# Altium footprint library UVEEC LED Cube.PcbLib: 9 footprints
Each footprint in its own frame and in the unit in brackets; x right, y up, seen from the top. Pads: shape width x height; smd on the part's side, far side on the other; paste and mask are expansions set on the pad; w line width, h text height; cw(c..) or ccw(c..) is an arc to the next point about the centre after c.
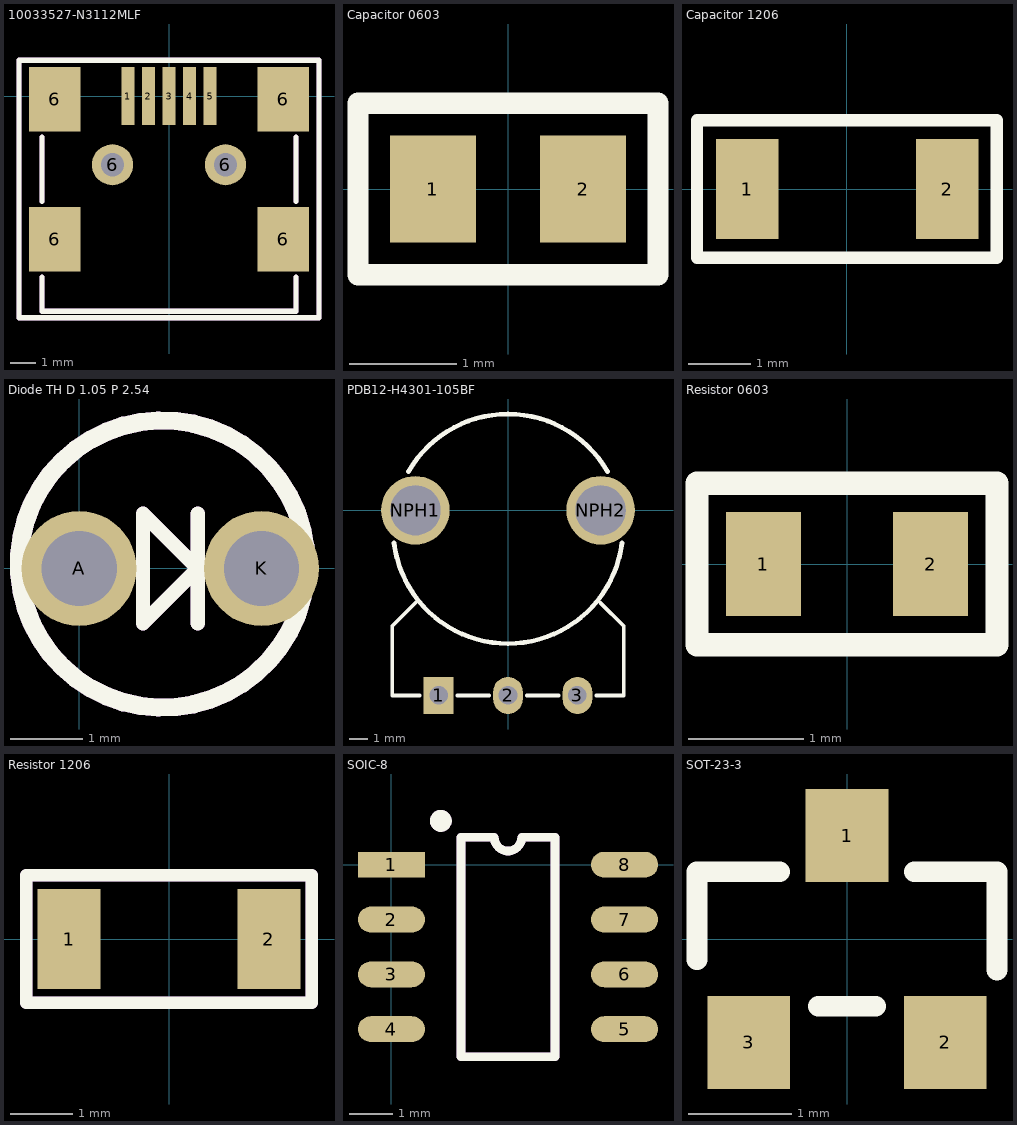
[diagram p0: the footprints below, top view; thin cyan lines are the x and y axes]

## 10033527-N3112MLF [mm]
pads (11):
  rect 0.5x2.25 smd: 1(-1.6,0) 2(-0.8,0) 3(0,0) 4(0.8,0) 5(1.6,0)
  rect 2x2.5 smd: 6(-4.45,-5.575) 6(-4.45,-0.125) 6(4.45,-5.575) 6(4.45,-0.125)
  round 1.6 hole 0.9: 6(-2.2,-2.675) 6(2.2,-2.675)
Top Overlay:
  lines w0.2: -4.953,-7.05 -4.953,-8.382 4.953,-8.382 4.953,-7.05 ; -4.95,-4.1 -4.95,-1.6 ; 4.95,-4.1 4.95,-1.6 ; -5.842,-8.636 5.842,-8.636 5.842,1.397 -5.842,1.397 -5.842,-8.636
Top Assembly:
  lines w0.2: -4.953,-7.05 -4.953,-8.382 4.953,-8.382 4.953,-7.05 ; -4.95,-4.1 -4.95,-1.6 ; 4.95,-4.1 4.95,-1.6 ; -5.842,-8.636 5.842,-8.636 5.842,1.397 -5.842,1.397 -5.842,-8.636
  text ".Designator" at -5.207,-10.668 h1.52
3D body "10033527-N3112MLF--3DModel-STEP-56544.STEP": height 3.95, standoff -0.95, extent -4.95,-8.45 4.95,0.873

## Capacitor 0603 [mm]
pads (2):
  rect 0.8x1 smd: 1(-0.7,0) 2(0.7,0)
Top Overlay:
  lines w0.2: -1.4,-0.8 1.4,-0.8 ; -1.4,-0.8 -1.4,0.8 ; -1.4,-0.8 1.4,-0.8 ; -1.4,-0.8 -1.4,0.8 ; -1.4,0.8 1.4,0.8 ; -1.4,0.8 1.4,0.8 ; 1.4,-0.8 1.4,0.8 ; 1.4,-0.8 1.4,0.8
Top Assembly:
  text ".Designator" at -1.246,-2.838 h1.52
3D body "C_0603_1608Metric.step": height 0.8, standoff 0, extent -0.8,-0.4 0.8,0.4

## Capacitor 1206 [mm]
pads (2):
  rect 1x1.6 smd: 1(-1.6,0) 2(1.6,0)
Top Overlay:
  lines w0.2: -2.4,-1.1 2.4,-1.1 2.4,1.1 -2.4,1.1 -2.4,-1.1
Top Assembly:
  text ".Designator" at -2.446,-3.138 h1.52
3D body "C_1206_3216Metric.step": height 1.6, standoff 0, extent -1.6,-0.8 1.6,0.8

## Diode TH D 1.05 P 2.54 [mm]
pads (2):
  round 1.6 hole 1.05: A(0,0) K(2.54,0)
Top Overlay:
  circle w0.254: c1.163,0.062 r2
  lines w0.2: 1.651,-0.762 1.651,0.762 ; 0.889,-0.762 0.889,0.762 1.651,0 0.889,-0.762
Top Assembly:
  circle w0.254: c1.163,0.062 r2
  lines w0.2: 1.651,-0.762 1.651,0.762 ; 0.889,-0.762 0.889,0.762 1.651,0 0.889,-0.762
  text ".Designator" at -0.635,-3.937 h1.52
3D body "LED_D5.0mm_Clear.step": height 11.6, standoff -2.5, extent -1.23,-2.898 4.158,2.898

## PDB12-H4301-105BF [mm]
pads (5):
  rect 1.6x2 hole 1: 1(-3.75,-10)
  oval 1.6x2 hole 1: 2(0,-10) 3(3.75,-10)
  round 3.7 hole 2.7: NPH1(-5,0) NPH2(5,0)
Top Overlay:
  lines w0.2: -4.775,-10 -6.25,-10 ; -2.725,-10 -1.025,-10 ; 1.025,-10 2.725,-10 ; 4.775,-10 6.25,-10 ; -6.25,-10 -6.25,-6.25 ; -6.25,-10 -6.25,-6.25 ; -6.25,-6.25 -4.875,-4.875 -6.25,-6.25 ; 6.25,-10 6.25,-6.25 ; 6.25,-10 6.25,-6.25 ; 6.25,-6.25 5,-5 6.25,-6.25
  lines w0.254: -6.154,-1.756 ccw(c0,-1) 6.154,-1.756 ; -5.369,2.1 cw(c0,-1) 5.369,2.1
Top Assembly:
  text ".Designator" at -6.996,-14.563 h1.52
3D body "PDB12-H4301-105BF.step": height 29.33, standoff -5.07, extent -7.972,-10 7.972,5.4

## Resistor 0603 [mm]
pads (2):
  rect 0.65x0.9 smd: 1(-0.725,0) 2(0.725,0)
Top Overlay:
  lines w0.2: -1.3,-0.7 -1.3,0.7 1.3,0.7 1.3,-0.7 -1.3,-0.7
Top Assembly:
  text ".Designator" at -1.271,1.512 h1.52
3D body "R_0603_1608Metric.step": height 0.45, standoff 0, extent -0.8,-0.4 0.8,0.4

## Resistor 1206 [mm]
pads (2):
  rect 1x1.6 smd: 1(-1.6,0) 2(1.6,0)
Top Overlay:
  lines w0.2: -2.286,-1.016 -2.286,1.016 2.286,1.016 2.286,-1.016 -2.286,-1.016
Top Assembly:
  lines w0.2: -2.286,-1.016 -2.286,1.016 2.286,1.016 2.286,-1.016 -2.286,-1.016
  text ".Designator" at -2.159,-2.921 h1.52
3D body "R_1206_3216Metric.step": height 0.55, standoff 0, extent -1.6,-0.8 1.6,0.8

## SOIC-8 [mm]
pads (8):
  rect 1.55x0.6 smd: 1(0,0)
  oval 1.55x0.6 smd: 2(0,-1.27) 3(0,-2.54) 4(0,-3.81) 5(5.4,-3.81) 6(5.4,-2.54) 7(5.4,-1.27) 8(5.4,0)
Top Overlay:
  circle w0.254: c1.143,1.016 r0.127
  lines w0.2: 1.61,-4.445 1.61,0.635 2.382,0.635 ccw(c2.7,0.635) 3.017,0.635 3.79,0.635 3.79,-4.445 1.61,-4.445
Top Assembly:
  circle w0.254: c1.143,1.016 r0.127
  lines w0.2: 1.61,-4.445 1.61,0.635 2.382,0.635 ccw(c2.7,0.635) 3.017,0.635 3.79,0.635 3.79,-4.445 1.61,-4.445
  text ".Designator" at 0.127,-6.604 h1.52
3D body "SOIC-8_3.9x4.9mm_P1.27mm.step": height 1.75, standoff 0, extent -0.333,-4.355 5.667,0.545

## SOT-23-3 [mm]
pads (3):
  rect 0.8x0.9 smd: 1(0,1) 2(0.95,-1) 3(-0.95,-1)
Top Overlay:
  lines w0.2: -1.45,0.65 -0.65,0.65 -1.45,0.65 ; -1.45,0.65 -1.45,-0.2 -1.45,0.65 ; 1.45,0.65 1.45,-0.3 1.45,0.65 ; 1.45,0.65 0.65,0.65 1.45,0.65 ; -0.275,-0.65 0.275,-0.65 -0.275,-0.65
Top Assembly:
  text ".Designator" at -1.346,-3.338 h1.52
3D body "SOT-23.step": height 1.2, standoff 0, extent -1.5,-1.25 1.5,1.25